# EAGLE library part PIC32MX2*0F***B-44PIN (library ANIMAlib)
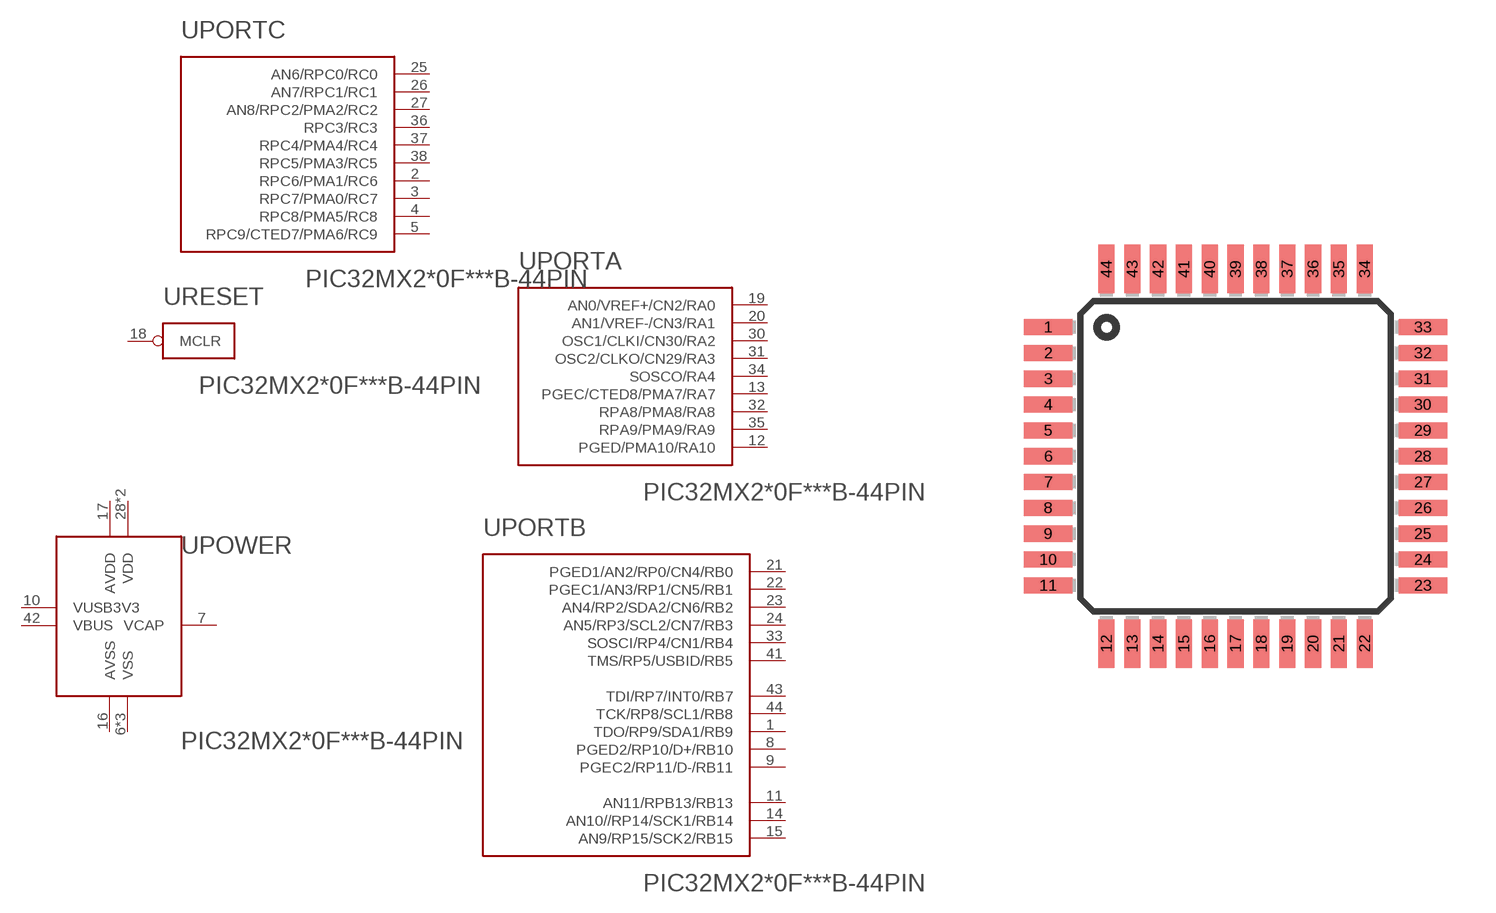
[diagram p31: symbol with the pads of TQFP44; footprint TQFP44]

Designator prefix U; gates RESET=PIC32MX2*0F***B-RESET PORTA=PIC32MX2*0F***B-44PIN-PORTA PORTB=PIC32MX2*0F***B-44PIN-PORTB PORTC=PIC32MX2*0F***B-44PIN-PORTC POWER=PIC32MX2*0F***B-44PIN-POWER

## PIC32MX20FB-44PIN  [TQFP44]
1  PORTB:TDO/RP9/SDA1/RB9
2  PORTC:RPC6/PMA1/RC6
3  PORTC:RPC7/PMA0/RC7
4  PORTC:RPC8/PMA5/RC8
5  PORTC:RPC9/CTED7/PMA6/RC9
6  POWER:VSS
7  POWER:VCAP
8  PORTB:PGED2/RP10/D+/RB10
9  PORTB:PGEC2/RP11/D-/RB11
10  POWER:VUSB3V3
11  PORTB:AN11/RPB13/RB13
12  PORTA:PGED/PMA10/RA10
13  PORTA:PGEC/CTED8/PMA7/RA7
14  PORTB:AN10//RP14/SCK1/RB14
15  PORTB:AN9/RP15/SCK2/RB15
16  POWER:AVSS
17  POWER:AVDD
18  RESET:MCLR
19  PORTA:AN0/VREF+/CN2/RA0
20  PORTA:AN1/VREF-/CN3/RA1
21  PORTB:PGED1/AN2/RP0/CN4/RB0
22  PORTB:PGEC1/AN3/RP1/CN5/RB1
23  PORTB:AN4/RP2/SDA2/CN6/RB2
24  PORTB:AN5/RP3/SCL2/CN7/RB3
25  PORTC:AN6/RPC0/RC0
26  PORTC:AN7/RPC1/RC1
27  PORTC:AN8/RPC2/PMA2/RC2
28  POWER:VDD
29  POWER:VSS
30  PORTA:OSC1/CLKI/CN30/RA2
31  PORTA:OSC2/CLKO/CN29/RA3
32  PORTA:RPA8/PMA8/RA8
33  PORTB:SOSCI/RP4/CN1/RB4
34  PORTA:SOSCO/RA4
35  PORTA:RPA9/PMA9/RA9
36  PORTC:RPC3/RC3
37  PORTC:RPC4/PMA4/RC4
38  PORTC:RPC5/PMA3/RC5
39  POWER:VSS
40  POWER:VDD
41  PORTB:TMS/RP5/USBID/RB5
42  POWER:VBUS
43  PORTB:TDI/RP7/INT0/RB7
44  PORTB:TCK/RP8/SCL1/RB8

## Footprint TQFP44 (pad centres in mm)
smd 1.5 x 0.5: 1 -5.8,4; 2 -5.8,3.2; 3 -5.8,2.4; 4 -5.8,1.6; 5 -5.8,0.8; 6 -5.8,0; 7 -5.8,-0.8; 8 -5.8,-1.6; 9 -5.8,-2.4; 10 -5.8,-3.2; 11 -5.8,-4; 23 5.8,-4; 24 5.8,-3.2; 25 5.8,-2.4; 26 5.8,-1.6; 27 5.8,-0.8; 28 5.8,0; 29 5.8,0.8; 30 5.8,1.6; 31 5.8,2.4; 32 5.8,3.2; 33 5.8,4
smd 0.5 x 1.5: 12 -4,-5.8; 13 -3.2,-5.8; 14 -2.4,-5.8; 15 -1.6,-5.8; 16 -0.8,-5.8; 17 0,-5.8; 18 0.8,-5.8; 19 1.6,-5.8; 20 2.4,-5.8; 21 3.2,-5.8; 22 4,-5.8; 34 4,5.8; 35 3.2,5.8; 36 2.4,5.8; 37 1.6,5.8; 38 0.8,5.8; 39 0,5.8; 40 -0.8,5.8; 41 -1.6,5.8; 42 -2.4,5.8; 43 -3.2,5.8; 44 -4,5.8